# Altium footprint library TB004-508-12BE.PcbLib: 1 footprints
Each footprint in its own frame and in the unit in brackets; x right, y up, seen from the top. Pads: shape width x height; smd on the part's side, far side on the other; paste and mask are expansions set on the pad; w line width, h text height; cw(c..) or ccw(c..) is an arc to the next point about the centre after c.
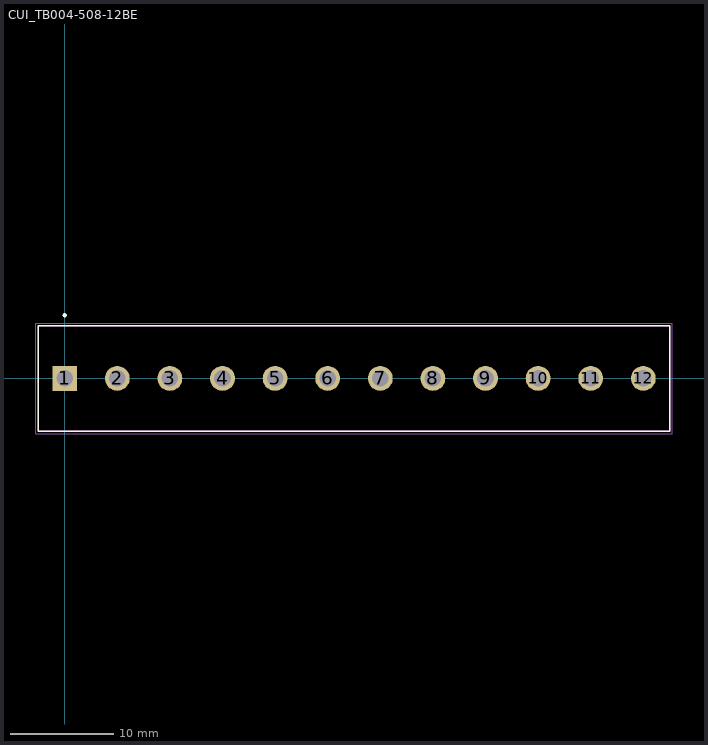
[diagram p0: the footprint, top view; thin cyan lines are the x and y axes]

## CUI_TB004-508-12BE [mm]
pads (12):
  rect 2.4x2.4 hole 1.6: 1(0,0)
  round 2.4 hole 1.6: 2(5.08,0) 3(10.16,0) 4(15.24,0) 5(20.32,0) 6(25.4,0) 7(30.48,0) 8(35.56,0) 9(40.64,0) 10(45.72,0) 11(50.8,0) 12(55.88,0)
Top Overlay:
  circle w0.2: c0,6.1 r0.1
  lines w0.127: -2.54,-5.1 58.42,-5.1 58.42,5.1 -2.54,5.1 -2.54,-5.1
Mechanical 13:
  circle w0.2: c0,6.1 r0.1
  lines w0.127: -2.54,-5.1 58.42,-5.1 58.42,5.1 -2.54,5.1 -2.54,-5.1
Mechanical 15:
  lines w0.05: -2.79,-5.35 -2.79,5.35 58.67,5.35 58.67,-5.35 -2.79,-5.35